# Altium schematic symbol library 7z010.SCHLIB: 2 symbols
Pins are listed as number, name and electrical type; pins without a type are passive.

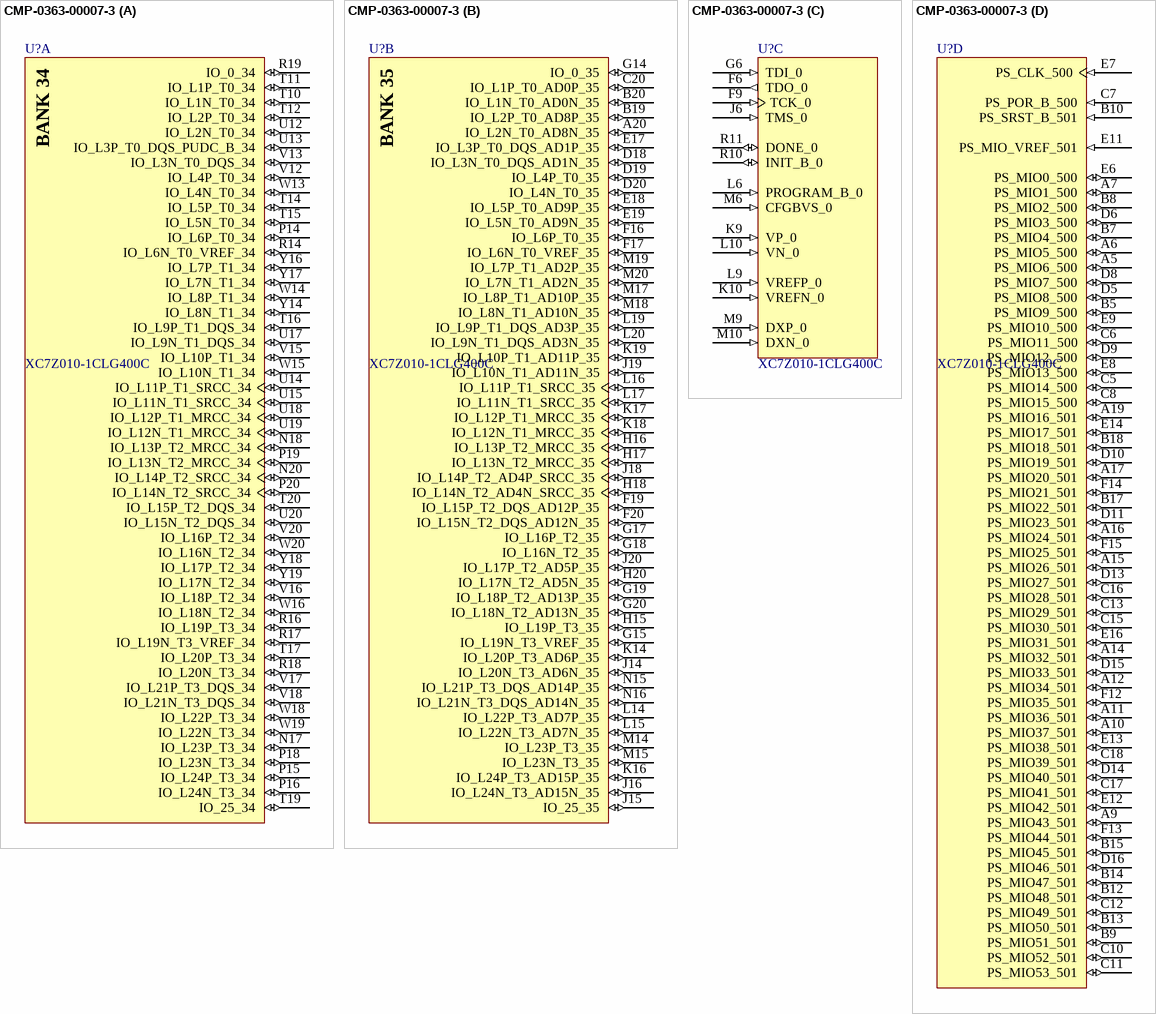
[diagram p0: symbol CMP-0363-00007-3]

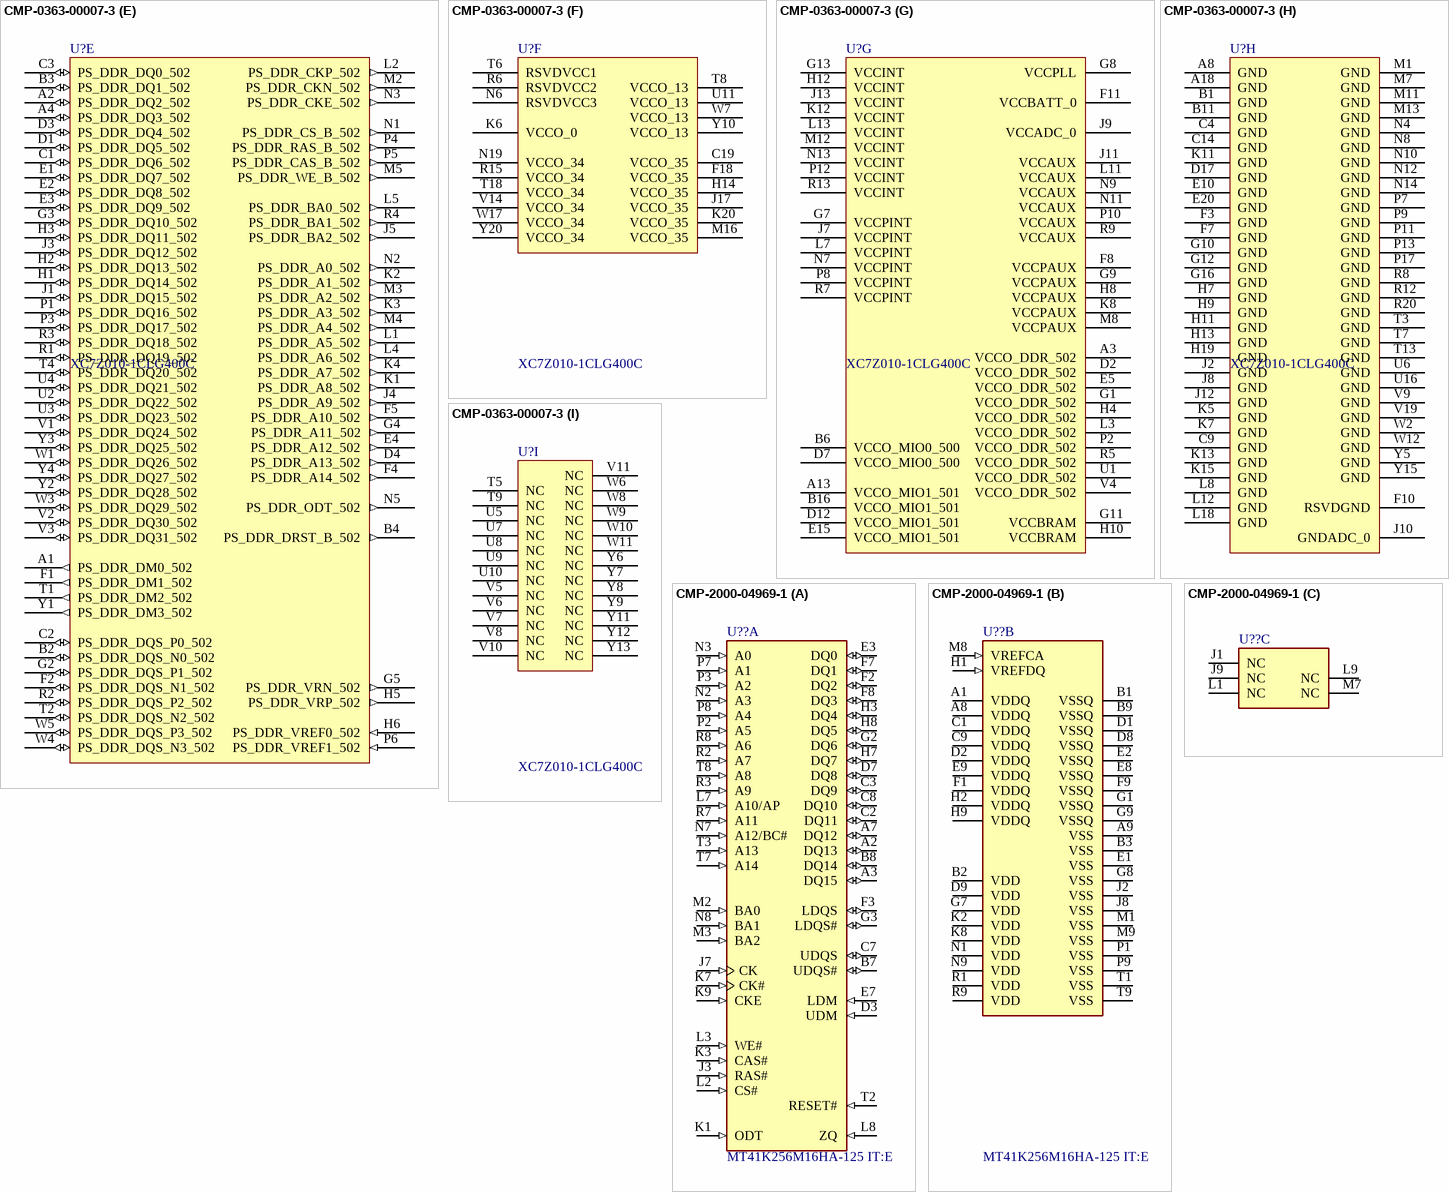
[diagram p1: symbols CMP-0363-00007-3 to CMP-2000-04969-1]

## CMP-0363-00007-3
designator U?, comment XC7Z010-1CLG400C
667 MHz Zynq™-7000 AP SoC, 130 PS I/O, 100 FPGA I/O, 400-Ball BGA, Speed Grade 1, Commercial Grade, Pb-Free; Flip Flops: 35200; Speed Grade: -1; LUTs: 17600; Extensible Block RAM (# 36Kb Blocks): 240 KB (60); ComponentLink6Description: PCB and Layout Guide; ComponentLink3Description: DC and AC Switching Characteristics; ComponentLink2URL: http://www.xilinx.com/support/documentation/user_guides/ug865-Zynq-7000-Pkg-Pinout.pdf; PackageReference: CLG400; ComponentLink3URL: http://www.xilinx.com/support/documentation/data_sheets/ds187-XC7Z010-XC7Z020-Data-Sheet.pdf; DatasheetVersion: v1.2; Generic Part Number: XC7Z010; ComponentLink2Description: Package Specification; ComponentLink1Description: Datasheet; PartNumber: XC7Z010-1CLG400C; ComponentLink5Description: Packaging and Pinout; Code_JEDEC: MO-275-MMAA-1; RoHS: Pb-Free; ComponentLink5URL: http://www.xilinx.com/support/documentation/user_guides/ug865-Zynq-7000-Pkg-Pinout.pdf; ComponentLink1URL: http://www.xilinx.com/support/documentation/data_sheets/ds190-Zynq-7000-Overview.pdf; ComponentLink4Description: Package File; ComponentLink4URL: http://www.xilinx.com/support/packagefiles/z7packages/xc7z010clg400pkg.txt; PackageDescription: Wire-Bond Chip-Scale BGA, Body 17 x 17 mm, 0.8 mm Pitch; PackageVersion: Rev 1.1, 09/2012; Mounting Technology: Surface Mount; ComponentLink6URL: http://www.xilinx.com/support/documentation/user_guides/ug483_7Series_PCB.pdf
footprint CLG400 (BGA, 400-Balls, Body 17x17mm, Pitch 0.8mm)
part A pins: N17 IO_L23P_T3_34 (io), N18 IO_L13P_T2_MRCC_34 (io), N20 IO_L14P_T2_SRCC_34 (io), P14 IO_L6P_T0_34 (io), P15 IO_L24P_T3_34 (io), P16 IO_L24N_T3_34 (io), P18 IO_L23N_T3_34 (io), P19 IO_L13N_T2_MRCC_34 (io), P20 IO_L14N_T2_SRCC_34 (io), R14 IO_L6N_T0_VREF_34 (io), R16 IO_L19P_T3_34 (io), R17 IO_L19N_T3_VREF_34 (io), R18 IO_L20N_T3_34 (io), R19 IO_0_34 (io), T10 IO_L1N_T0_34 (io), T11 IO_L1P_T0_34 (io), T12 IO_L2P_T0_34 (io), T14 IO_L5P_T0_34 (io), T15 IO_L5N_T0_34 (io), T16 IO_L9P_T1_DQS_34 (io), T17 IO_L20P_T3_34 (io), T19 IO_25_34 (io), T20 IO_L15P_T2_DQS_34 (io), U12 IO_L2N_T0_34 (io), U13 IO_L3P_T0_DQS_PUDC_B_34 (io), U14 IO_L11P_T1_SRCC_34 (io), U15 IO_L11N_T1_SRCC_34 (io), U17 IO_L9N_T1_DQS_34 (io), U18 IO_L12P_T1_MRCC_34 (io), U19 IO_L12N_T1_MRCC_34 (io), U20 IO_L15N_T2_DQS_34 (io), V12 IO_L4P_T0_34 (io), V13 IO_L3N_T0_DQS_34 (io), V15 IO_L10P_T1_34 (io), V16 IO_L18P_T2_34 (io), V17 IO_L21P_T3_DQS_34 (io), V18 IO_L21N_T3_DQS_34 (io), V20 IO_L16P_T2_34 (io), W13 IO_L4N_T0_34 (io), W14 IO_L8P_T1_34 (io), W15 IO_L10N_T1_34 (io), W16 IO_L18N_T2_34 (io), W18 IO_L22P_T3_34 (io), W19 IO_L22N_T3_34 (io), W20 IO_L16N_T2_34 (io), Y14 IO_L8N_T1_34 (io), Y16 IO_L7P_T1_34 (io), Y17 IO_L7N_T1_34 (io), Y18 IO_L17P_T2_34 (io), Y19 IO_L17N_T2_34 (io)
part B pins: A20 IO_L2N_T0_AD8N_35 (io), B19 IO_L2P_T0_AD8P_35 (io), B20 IO_L1N_T0_AD0N_35 (io), C20 IO_L1P_T0_AD0P_35 (io), D18 IO_L3N_T0_DQS_AD1N_35 (io), D19 IO_L4P_T0_35 (io), D20 IO_L4N_T0_35 (io), E17 IO_L3P_T0_DQS_AD1P_35 (io), E18 IO_L5P_T0_AD9P_35 (io), E19 IO_L5N_T0_AD9N_35 (io), F16 IO_L6P_T0_35 (io), F17 IO_L6N_T0_VREF_35 (io), F19 IO_L15P_T2_DQS_AD12P_35 (io), F20 IO_L15N_T2_DQS_AD12N_35 (io), G14 IO_0_35 (io), G15 IO_L19N_T3_VREF_35 (io), G17 IO_L16P_T2_35 (io), G18 IO_L16N_T2_35 (io), G19 IO_L18P_T2_AD13P_35 (io), G20 IO_L18N_T2_AD13N_35 (io), H15 IO_L19P_T3_35 (io), H16 IO_L13P_T2_MRCC_35 (io), H17 IO_L13N_T2_MRCC_35 (io), H18 IO_L14N_T2_AD4N_SRCC_35 (io), H20 IO_L17N_T2_AD5N_35 (io), J14 IO_L20N_T3_AD6N_35 (io), J15 IO_25_35 (io), J16 IO_L24N_T3_AD15N_35 (io), J18 IO_L14P_T2_AD4P_SRCC_35 (io), J19 IO_L10N_T1_AD11N_35 (io), J20 IO_L17P_T2_AD5P_35 (io), K14 IO_L20P_T3_AD6P_35 (io), K16 IO_L24P_T3_AD15P_35 (io), K17 IO_L12P_T1_MRCC_35 (io), K18 IO_L12N_T1_MRCC_35 (io), K19 IO_L10P_T1_AD11P_35 (io), L14 IO_L22P_T3_AD7P_35 (io), L15 IO_L22N_T3_AD7N_35 (io), L16 IO_L11P_T1_SRCC_35 (io), L17 IO_L11N_T1_SRCC_35 (io), L19 IO_L9P_T1_DQS_AD3P_35 (io), L20 IO_L9N_T1_DQS_AD3N_35 (io), M14 IO_L23P_T3_35 (io), M15 IO_L23N_T3_35 (io), M17 IO_L8P_T1_AD10P_35 (io), M18 IO_L8N_T1_AD10N_35 (io), M19 IO_L7P_T1_AD2P_35 (io), M20 IO_L7N_T1_AD2N_35 (io), N15 IO_L21P_T3_DQS_AD14P_35 (io), N16 IO_L21N_T3_DQS_AD14N_35 (io)
part C pins: F6 TDO_0 (out), F9 TCK_0 (in), G6 TDI_0 (in), J6 TMS_0 (in), K9 VP_0 (in), K10 VREFN_0 (in), L6 PROGRAM_B_0 (in), L9 VREFP_0 (in), L10 VN_0 (in), M6 CFGBVS_0 (in), M9 DXP_0 (in), M10 DXN_0 (in), R10 INIT_B_0 (io), R11 DONE_0 (io)
part D pins: A5 PS_MIO6_500 (io), A6 PS_MIO5_500 (io), A7 PS_MIO1_500 (io), A9 PS_MIO43_501 (io), A10 PS_MIO37_501 (io), A11 PS_MIO36_501 (io), A12 PS_MIO34_501 (io), A14 PS_MIO32_501 (io), A15 PS_MIO26_501 (io), A16 PS_MIO24_501 (io), A17 PS_MIO20_501 (io), A19 PS_MIO16_501 (io), B5 PS_MIO9_500 (io), B7 PS_MIO4_500 (io), B8 PS_MIO2_500 (io), B9 PS_MIO51_501 (io), B10 PS_SRST_B_501 (in), B12 PS_MIO48_501 (io), B13 PS_MIO50_501 (io), B14 PS_MIO47_501 (io), B15 PS_MIO45_501 (io), B17 PS_MIO22_501 (io), B18 PS_MIO18_501 (io), C5 PS_MIO14_500 (io), C6 PS_MIO11_500 (io), C7 PS_POR_B_500 (in), C8 PS_MIO15_500 (io), C10 PS_MIO52_501 (io), C11 PS_MIO53_501 (io), C12 PS_MIO49_501 (io), C13 PS_MIO29_501 (io), C15 PS_MIO30_501 (io), C16 PS_MIO28_501 (io), C17 PS_MIO41_501 (io), C18 PS_MIO39_501 (io), D5 PS_MIO8_500 (io), D6 PS_MIO3_500 (io), D8 PS_MIO7_500 (io), D9 PS_MIO12_500 (io), D10 PS_MIO19_501 (io), D11 PS_MIO23_501 (io), D13 PS_MIO27_501 (io), D14 PS_MIO40_501 (io), D15 PS_MIO33_501 (io), D16 PS_MIO46_501 (io), E6 PS_MIO0_500 (io), E7 PS_CLK_500 (in), E8 PS_MIO13_500 (io), E9 PS_MIO10_500 (io), E11 PS_MIO_VREF_501 (in), E12 PS_MIO42_501 (io), E13 PS_MIO38_501 (io), E14 PS_MIO17_501 (io), E16 PS_MIO31_501 (io), F12 PS_MIO35_501 (io), F13 PS_MIO44_501 (io), F14 PS_MIO21_501 (io), F15 PS_MIO25_501 (io)
part E pins: A1 PS_DDR_DM0_502 (out), A2 PS_DDR_DQ2_502 (io), A4 PS_DDR_DQ3_502 (io), B2 PS_DDR_DQS_N0_502 (io), B3 PS_DDR_DQ1_502 (io), B4 PS_DDR_DRST_B_502 (out), C1 PS_DDR_DQ6_502 (io), C2 PS_DDR_DQS_P0_502 (io), C3 PS_DDR_DQ0_502 (io), D1 PS_DDR_DQ5_502 (io), D3 PS_DDR_DQ4_502 (io), D4 PS_DDR_A13_502 (out), E1 PS_DDR_DQ7_502 (io), E2 PS_DDR_DQ8_502 (io), E3 PS_DDR_DQ9_502 (io), E4 PS_DDR_A12_502 (out), F1 PS_DDR_DM1_502 (out), F2 PS_DDR_DQS_N1_502 (io), F4 PS_DDR_A14_502 (out), F5 PS_DDR_A10_502 (out), G2 PS_DDR_DQS_P1_502 (io), G3 PS_DDR_DQ10_502 (io), G4 PS_DDR_A11_502 (out), G5 PS_DDR_VRN_502 (out), H1 PS_DDR_DQ14_502 (io), H2 PS_DDR_DQ13_502 (io), H3 PS_DDR_DQ11_502 (io), H5 PS_DDR_VRP_502 (out), H6 PS_DDR_VREF0_502 (in), J1 PS_DDR_DQ15_502 (io), J3 PS_DDR_DQ12_502 (io), J4 PS_DDR_A9_502 (out), J5 PS_DDR_BA2_502 (out), K1 PS_DDR_A8_502 (out), K2 PS_DDR_A1_502 (out), K3 PS_DDR_A3_502 (out), K4 PS_DDR_A7_502 (out), L1 PS_DDR_A5_502 (out), L2 PS_DDR_CKP_502 (out), L4 PS_DDR_A6_502 (out), L5 PS_DDR_BA0_502 (out), M2 PS_DDR_CKN_502 (out), M3 PS_DDR_A2_502 (out), M4 PS_DDR_A4_502 (out), M5 PS_DDR_WE_B_502 (out), N1 PS_DDR_CS_B_502 (out), N2 PS_DDR_A0_502 (out), N3 PS_DDR_CKE_502 (out), N5 PS_DDR_ODT_502 (out), P1 PS_DDR_DQ16_502 (io), P3 PS_DDR_DQ17_502 (io), P4 PS_DDR_RAS_B_502 (out), P5 PS_DDR_CAS_B_502 (out), P6 PS_DDR_VREF1_502 (in), R1 PS_DDR_DQ19_502 (io), R2 PS_DDR_DQS_P2_502 (io), R3 PS_DDR_DQ18_502 (io), R4 PS_DDR_BA1_502 (out), T1 PS_DDR_DM2_502 (out), T2 PS_DDR_DQS_N2_502 (io), T4 PS_DDR_DQ20_502 (io), U2 PS_DDR_DQ22_502 (io), U3 PS_DDR_DQ23_502 (io), U4 PS_DDR_DQ21_502 (io), V1 PS_DDR_DQ24_502 (io), V2 PS_DDR_DQ30_502 (io), V3 PS_DDR_DQ31_502 (io), W1 PS_DDR_DQ26_502 (io), W3 PS_DDR_DQ29_502 (io), W4 PS_DDR_DQS_N3_502 (io), W5 PS_DDR_DQS_P3_502 (io), Y1 PS_DDR_DM3_502 (out), Y2 PS_DDR_DQ28_502 (io), Y3 PS_DDR_DQ25_502 (io), Y4 PS_DDR_DQ27_502 (io)
part F pins: C19 VCCO_35 (power), F18 VCCO_35 (power), H14 VCCO_35 (power), J17 VCCO_35 (power), K6 VCCO_0 (power), K20 VCCO_35 (power), M16 VCCO_35 (power), N6 RSVDVCC3 (power), N19 VCCO_34 (power), R6 RSVDVCC2 (power), R15 VCCO_34 (power), T6 RSVDVCC1 (power), T8 VCCO_13 (power), T18 VCCO_34 (power), U11 VCCO_13 (power), V14 VCCO_34 (power), W7 VCCO_13 (power), W17 VCCO_34 (power), Y10 VCCO_13 (power), Y20 VCCO_34 (power)
part G pins: A3 VCCO_DDR_502 (power), A13 VCCO_MIO1_501 (power), B6 VCCO_MIO0_500 (power), B16 VCCO_MIO1_501 (power), D2 VCCO_DDR_502 (power), D7 VCCO_MIO0_500 (power), D12 VCCO_MIO1_501 (power), E5 VCCO_DDR_502 (power), E15 VCCO_MIO1_501 (power), F8 VCCPAUX (power), F11 VCCBATT_0 (power), G1 VCCO_DDR_502 (power), G7 VCCPINT (power), G8 VCCPLL (power), G9 VCCPAUX (power), G11 VCCBRAM (power), G13 VCCINT (power), H4 VCCO_DDR_502 (power), H8 VCCPAUX (power), H10 VCCBRAM (power), H12 VCCINT (power), J7 VCCPINT (power), J9 VCCADC_0 (power), J11 VCCAUX (power), J13 VCCINT (power), K8 VCCPAUX (power), K12 VCCINT (power), L3 VCCO_DDR_502 (power), L7 VCCPINT (power), L11 VCCAUX (power), L13 VCCINT (power), M8 VCCPAUX (power), M12 VCCINT (power), N7 VCCPINT (power), N9 VCCAUX (power), N11 VCCAUX (power), N13 VCCINT (power), P2 VCCO_DDR_502 (power), P8 VCCPINT (power), P10 VCCAUX (power), P12 VCCINT (power), R5 VCCO_DDR_502 (power), R7 VCCPINT (power), R9 VCCAUX (power), R13 VCCINT (power), U1 VCCO_DDR_502 (power), V4 VCCO_DDR_502 (power)
part H pins: A8 GND (power), A18 GND (power), B1 GND (power), B11 GND (power), C4 GND (power), C9 GND (power), C14 GND (power), D17 GND (power), E10 GND (power), E20 GND (power), F3 GND (power), F7 GND (power), F10 RSVDGND (power), G10 GND (power), G12 GND (power), G16 GND (power), H7 GND (power), H9 GND (power), H11 GND (power), H13 GND (power), H19 GND (power), J2 GND (power), J8 GND (power), J10 GNDADC_0 (power), J12 GND (power), K5 GND (power), K7 GND (power), K11 GND (power), K13 GND (power), K15 GND (power), L8 GND (power), L12 GND (power), L18 GND (power), M1 GND (power), M7 GND (power), M11 GND (power), M13 GND (power), N4 GND (power), N8 GND (power), N10 GND (power), N12 GND (power), N14 GND (power), P7 GND (power), P9 GND (power), P11 GND (power), P13 GND (power), P17 GND (power), R8 GND (power), R12 GND (power), R20 GND (power), T3 GND (power), T7 GND (power), T13 GND (power), U6 GND (power), U16 GND (power), V9 GND (power), V19 GND (power), W2 GND (power), W12 GND (power), Y5 GND (power), Y15 GND (power)
part I pins: T5 NC, T9 NC, U5 NC, U7 NC, U8 NC, U9 NC, U10 NC, V5 NC, V6 NC, V7 NC, V8 NC, V10 NC, V11 NC, W6 NC, W8 NC, W9 NC, W10 NC, W11 NC, Y6 NC, Y7 NC, Y8 NC, Y9 NC, Y11 NC, Y12 NC, Y13 NC
part A text: BANK 34
part B text: BANK 35

## CMP-2000-04969-1
designator U??, comment MT41K256M16HA-125 IT:E
4Gb DDR3-1600 SDRAM, 256Mb x 16, 1.25 ns, 1.35 V, -40 to 95 degC, 96-Ball FBGA; Manufacturer: Micron; Operating Supply Voltage (Typ): 1.35V; Maximum Clock Rate: 1.6GHz; Address Bus: 18b; Supply Current: 235mA; Operating Supply Voltage (Min): 1.283V; Operating Supply Voltage (Max): 1.45V; Type: DDR3LSDRAM; Manufacturer URL: https://www.micron.com/; Density: 4Gb; Operating Temp Range: -40Cto95C; Datasheet Version: Rev. I, 09/2013; Datasheet URL: http://download.siliconexpert.com/pdfs/2014/5/28/8/56/32/726/mic_/manual/mt41k256m16re-125.pdf; Pin Count: 96; Operating Temperature Classification: Industrial; Package Description: 96-Ball Fine-Pitch Ball Grid Array, Body 14 x 9 mm, Pitch 0.8 mm; Package Type: FBGA; Package Reference: HA-96; Mounting: SurfaceMount
footprint MICT-HA-96 (Footprint not found)
part A pins: A2 DQ13 (io) "Input with write data. DQS is center-aligned to write data.", A3 DQ15 (io) "Data input/output: Upper byte of bidirectional data bus for the x16 configuration. DQ[15:8] are referenced to VREFDQ.", A7 DQ12 (io) "Data input/output: Upper byte of bidirectional data bus for the x16 configuration. DQ[15:8] are referenced to VREFDQ.", B7 UDQS# (io) "Upper byte data strobe: Output with read data. Edge-aligned with read data. Input with write data. DQS is center-aligned to write data.", B8 DQ14 (io) "Data input/output: Upper byte of bidirectional data bus for the x16 configuration. DQ[15:8] are referenced to VREFDQ.", C2 DQ11 (io) "Data input/output: Upper byte of bidirectional data bus for the x16 configuration. DQ[15:8] are referenced to VREFDQ.", C3 DQ9 (io) "Data input/output: Upper byte of bidirectional data bus for the x16 configuration. DQ[15:8] are referenced to VREFDQ.", C7 UDQS (io) "Upper byte data strobe: Output with read data. Edge-aligned with read data. Input with write data. DQS is center-aligned to write data.", C8 DQ10 (io) "Data input/output: Upper byte of bidirectional data bus for the x16 configuration. DQ[15:8] are referenced to VREFDQ.", D3 UDM (in) "Input data mask: UDM is an upper-byte, input mask signal for write data. Upperbyte input data is masked when UDM is sampled HIGH along with that input data during a WRITE access. Although the UDM ball is input-only, the UDM (See Datasheet)", D7 DQ8 (io) "Data input/output: Upper byte of bidirectional data bus for the x16 configuration. DQ[15:8] are referenced to VREFDQ.", E3 DQ0 (io) "Data input/output: Lower byte of bidirectional data bus for the x16 configuration. DQ[7:0] are referenced to VREFDQ.", E7 LDM (in) "Input data mask: LDM is a lower-byte, input mask signal for write data. Lower-byte input data is masked when LDM is sampled HIGH along with the input data during a write access. Although the LDM ball is input-only, the LDM (See Datasheet)", F2 DQ2 (io) "Data input/output: Lower byte of bidirectional data bus for the x16 configuration. DQ[7:0] are referenced to VREFDQ.", F3 LDQS (io) "Lower byte data strobe: Output with read data. Edge-aligned with read data. Input with write data. Center-aligned to write data.", F7 DQ1 (io) "Data input/output: Lower byte of bidirectional data bus for the x16 configuration. DQ[7:0] are referenced to VREFDQ.", F8 DQ3 (io) "Data input/output: Lower byte of bidirectional data bus for the x16 configuration. DQ[7:0] are referenced to VREFDQ.", G2 DQ6 (io) "Data input/output: Lower byte of bidirectional data bus for the x16 configuration. DQ[7:0] are referenced to VREFDQ.", G3 LDQS# (io) "Lower byte data strobe: Output with read data. Edge-aligned with read data. Input with write data. Center-aligned to write data.", H3 DQ4 (io) "Data input/output: Lower byte of bidirectional data bus for the x16 configuration. DQ[7:0] are referenced to VREFDQ.", H7 DQ7 (io) "Data input/output: Lower byte of bidirectional data bus for the x16 configuration. DQ[7:0] are referenced to VREFDQ.", H8 DQ5 (io) "Data input/output: Lower byte of bidirectional data bus for the x16 configuration. DQ[7:0] are referenced to VREFDQ.", J3 RAS# (in) "Command inputs: RAS#, CAS#, and WE# (along with CS#) define the command being entered and are referenced to VREFCA.", J7 CK (in) "Clock: CK and CK# are differential clock inputs. All control and address input signals are sampled on the crossing of the positive edge of CK and the negative edge of CK#. Output data strobe (DQS, DQS#) is referenced to the (See Datasheet)", K1 ODT (in) "On-die termination: ODT enables (registered HIGH) and disables (registered LOW) termination resistance internal to the DDR3 SDRAM. When enabled in normal operation, ODT is only applied to each of the following balls: (See Datasheet)", K3 CAS# (in) "Command inputs: RAS#, CAS#, and WE# (along with CS#) define the command being entered and are referenced to VREFCA.", K7 CK# (in) "Clock: CK and CK# are differential clock inputs. All control and address input signals are sampled on the crossing of the positive edge of CK and the negative edge of CK#. Output data strobe (DQS, DQS#) is referenced to the (See Datasheet)", K9 CKE (in) "Clock enable: CKE enables (registered HIGH) and disables (registered LOW) internal circuitry and clocks on the DRAM. The specific circuitry that is enabled/ disabled is dependent upon the DDR3 SDRAM configuration and (See Datasheet)", L2 CS# (in) "Chip select: CS# enables (registered LOW) and disables (registered HIGH) the command decoder. All commands are masked when CS# is registered HIGH. CS# provides for external rank selection on systems with multiple ranks. CS# (See Datasheet)", L3 WE# (in) "Command inputs: RAS#, CAS#, and WE# (along with CS#) define the command being entered and are referenced to VREFCA.", L7 A10/AP (in) "Address inputs: Provide the row address for ACTIVATE commands, and the column address and auto precharge bit (A10) for READ/WRITE commands, to select one location out of the memory array in the respective bank. A10 sampled (See Datasheet)", L8 ZQ (in) "External reference ball for output drive calibration: This ball is tied to an external 240ohm resistor (RZQ), which is tied to VSSQ.", M2 BA0 (in) "Bank address inputs: BA[2:0] define the bank to which an ACTIVATE, READ, WRITE, or PRECHARGE command is being applied. BA[2:0] define which mode register (MR0, MR1, MR2, or MR3) is loaded during the LOAD MODE command. (See Datasheet)", M3 BA2 (in) "Bank address inputs: BA[2:0] define the bank to which an ACTIVATE, READ, WRITE, or PRECHARGE command is being applied. BA[2:0] define which mode register (MR0, MR1, MR2, or MR3) is loaded during the LOAD MODE command. (See Datasheet)", N2 A3 (in) "Address inputs: Provide the row address for ACTIVATE commands, and the column address and auto precharge bit (A10) for READ/WRITE commands, to select one location out of the memory array in the respective bank. A10 sampled (See Datasheet)", N3 A0 (in) "Address inputs: Provide the row address for ACTIVATE commands, and the column address and auto precharge bit (A10) for READ/WRITE commands, to select one location out of the memory array in the respective bank. A10 sampled (See Datasheet)", N7 A12/BC# (in) "Address inputs: Provide the row address for ACTIVATE commands, and the column address and auto precharge bit (A10) for READ/WRITE commands, to select one location out of the memory array in the respective bank. A10 sampled (See Datasheet)", N8 BA1 (in) "Bank address inputs: BA[2:0] define the bank to which an ACTIVATE, READ, WRITE, or PRECHARGE command is being applied. BA[2:0] define which mode register (MR0, MR1, MR2, or MR3) is loaded during the LOAD MODE command. (See Datasheet)", P2 A5 (in) "Address inputs: Provide the row address for ACTIVATE commands, and the column address and auto precharge bit (A10) for READ/WRITE commands, to select one location out of the memory array in the respective bank. A10 sampled (See Datasheet)", P3 A2 (in) "Address inputs: Provide the row address for ACTIVATE commands, and the column address and auto precharge bit (A10) for READ/WRITE commands, to select one location out of the memory array in the respective bank. A10 sampled (See Datasheet)", P7 A1 (in) "Address inputs: Provide the row address for ACTIVATE commands, and the column address and auto precharge bit (A10) for READ/WRITE commands, to select one location out of the memory array in the respective bank. A10 sampled (See Datasheet)", P8 A4 (in) "Address inputs: Provide the row address for ACTIVATE commands, and the column address and auto precharge bit (A10) for READ/WRITE commands, to select one location out of the memory array in the respective bank. A10 sampled (See Datasheet)", R2 A7 (in) "Address inputs: Provide the row address for ACTIVATE commands, and the column address and auto precharge bit (A10) for READ/WRITE commands, to select one location out of the memory array in the respective bank. A10 sampled (See Datasheet)", R3 A9 (in) "Address inputs: Provide the row address for ACTIVATE commands, and the column address and auto precharge bit (A10) for READ/WRITE commands, to select one location out of the memory array in the respective bank. A10 sampled (See Datasheet)", R7 A11 (in) "Address inputs: Provide the row address for ACTIVATE commands, and the column address and auto precharge bit (A10) for READ/WRITE commands, to select one location out of the memory array in the respective bank. A10 sampled (See Datasheet)", R8 A6 (in) "Address inputs: Provide the row address for ACTIVATE commands, and the column address and auto precharge bit (A10) for READ/WRITE commands, to select one location out of the memory array in the respective bank. A10 sampled (See Datasheet)", T2 RESET# (in) "Reset: RESET# is an active LOW CMOS input referenced to VSS. The RESET# input receiver is a CMOS input defined as a rail-to-rail signal with DC HIGH >= 0.8 x VDD and DC LOW =< 0.2 x VDDQ. RESET# assertion and desertion are (See Datasheet)", T3 A13 (in) "Address inputs: Provide the row address for ACTIVATE commands, and the column address and auto precharge bit (A10) for READ/WRITE commands, to select one location out of the memory array in the respective bank. A10 sampled (See Datasheet)", T7 A14 (in) "Address inputs: Provide the row address for ACTIVATE commands, and the column address and auto precharge bit (A10) for READ/WRITE commands, to select one location out of the memory array in the respective bank. A10 sampled (See Datasheet)", T8 A8 (in) "Address inputs: Provide the row address for ACTIVATE commands, and the column address and auto precharge bit (A10) for READ/WRITE commands, to select one location out of the memory array in the respective bank. A10 sampled (See Datasheet)"
part B pins: A1 VDDQ (power) "DQ power supply: 1.35V, 1.283-1.45V operational; compatible to 1.5V operation.", A8 VDDQ (power) "DQ power supply: 1.35V, 1.283-1.45V operational; compatible to 1.5V operation.", A9 VSS (power) "Ground.", B1 VSSQ (power) "DQ ground: Isolated on the device for improved noise immunity.", B2 VDD (power) "Power supply: 1.35V, 1.283-1.45V operational; compatible to 1.5V operation.", B3 VSS (power) "DQ ground: Isolated on the device for improved noise immunity.", B9 VSSQ (power) "DQ ground: Isolated on the device for improved noise immunity.", C1 VDDQ (power) "DQ power supply: 1.35V, 1.283-1.45V operational; compatible to 1.5V operation.", C9 VDDQ (power) "DQ power supply: 1.35V, 1.283-1.45V operational; compatible to 1.5V operation.", D1 VSSQ (power) "DQ ground: Isolated on the device for improved noise immunity.", D2 VDDQ (power) "DQ power supply: 1.35V, 1.283-1.45V operational; compatible to 1.5V operation.", D8 VSSQ (power) "DQ ground: Isolated on the device for improved noise immunity.", D9 VDD (power) "Power supply: 1.35V, 1.283-1.45V operational; compatible to 1.5V operation.", E1 VSS (power) "Ground.", E2 VSSQ (power) "DQ ground: Isolated on the device for improved noise immunity.", E8 VSSQ (power) "DQ ground: Isolated on the device for improved noise immunity.", E9 VDDQ (power) "DQ power supply: 1.35V, 1.283-1.45V operational; compatible to 1.5V operation.", F1 VDDQ (power) "DQ power supply: 1.35V, 1.283-1.45V operational; compatible to 1.5V operation.", F9 VSSQ (power) "DQ ground: Isolated on the device for improved noise immunity.", G1 VSSQ (power) "DQ ground: Isolated on the device for improved noise immunity.", G7 VDD (power) "Power supply: 1.35V, 1.283-1.45V operational; compatible to 1.5V operation.", G8 VSS (power) "Ground.", G9 VSSQ (power) "DQ ground: Isolated on the device for improved noise immunity.", H1 VREFDQ (in) "Reference voltage for data: VREFDQ must be maintained at all times (excluding self refresh) for proper device operation.", H2 VDDQ (power) "DQ power supply: 1.35V, 1.283-1.45V operational; compatible to 1.5V operation.", H9 VDDQ (power) "DQ power supply: 1.35V, 1.283-1.45V operational; compatible to 1.5V operation.", J2 VSS (power) "Ground.", J8 VSS (power) "Ground.", K2 VDD (power) "Power supply: 1.35V, 1.283-1.45V operational; compatible to 1.5V operation.", K8 VDD (power) "Power supply: 1.35V, 1.283-1.45V operational; compatible to 1.5V operation.", M1 VSS (power) "Ground.", M8 VREFCA (in) "Reference voltage for control, command, and address: VREFCA must be maintained at all times (including self refresh) for proper device operation.", M9 VSS (power) "Ground.", N1 VDD (power) "Power supply: 1.35V, 1.283-1.45V operational; compatible to 1.5V operation.", N9 VDD (power) "Power supply: 1.35V, 1.283-1.45V operational; compatible to 1.5V operation.", P1 VSS (power) "Ground.", P9 VSS (power) "Ground.", R1 VDD (power) "Power supply: 1.35V, 1.283-1.45V operational; compatible to 1.5V operation.", R9 VDD (power) "Power supply: 1.35V, 1.283-1.45V operational; compatible to 1.5V operation.", T1 VSS (power) "Ground.", T9 VSS (power) "Ground."
part C pins: J1 NC "No connect: These balls should be left unconnected (the ball has no connection to the DRAM or to other balls).", J9 NC "No connect: These balls should be left unconnected (the ball has no connection to the DRAM or to other balls).", L1 NC "No connect: These balls should be left unconnected (the ball has no connection to the DRAM or to other balls).", L9 NC "No connect: These balls should be left unconnected (the ball has no connection to the DRAM or to other balls).", M7 NC "No connect: These balls should be left unconnected (the ball has no connection to the DRAM or to other balls)."